# Altium schematic symbol library 0R.Schlib: 1 symbol
Pins are listed as number, name and electrical type; pins without a type are passive.

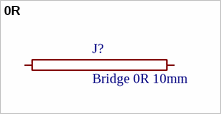
[diagram p0: symbol 0R]

## 0R
designator J?, comment Bridge 0R 10mm
footprint 0R/10
pins: 1, 2